# Altium schematic symbol library conn_header_1.00mm_st.SchLib: 1 symbol
Pins are listed as number, name and electrical type; pins without a type are passive.

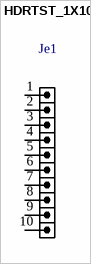
[diagram p0: symbol HDRTST_1X10]

## HDRTST_1X10
designator Je1, comment HDR_1X11  (value not drawn)
HEADER, 1mm pitch, test, SMD; VALUE: HDR_1X11
footprint HDR1_M_1X10 (HEADER, 1mm, SMD)
pins: 1, 2, 3, 4, 5, 6, 7, 8, 9, 10